# Altium schematic symbol library Battery_Holder.SchLib: 1 symbol
Pins are listed as number, name and electrical type; pins without a type are passive.

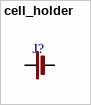
[diagram p0: symbol cell_holder]

## cell_holder
designator J?  (value not drawn)
footprint BS-08-B2AA001_SMD_CR2032
pins: 1 Bat+, 2 Bat-